# Altium schematic symbol library LRTBR48G_4P.SchLib: 1 symbol
Pins are listed as number, name and electrical type; pins without a type are passive.

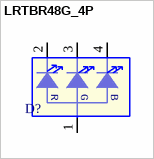
[diagram p0: symbol LRTBR48G_4P]

## LRTBR48G_4P
designator D?
LED RED/GRN/BL TRI 20/20/20MA SMT
pins: 1 ANODE, 2 CATHODE1, 3 CATHODE2, 4 CATHODE3
text: R; G; B